# Altium schematic symbol library OPA1644AIPWR.SchLib: 1 symbol
Pins are listed as number, name and electrical type; pins without a type are passive.

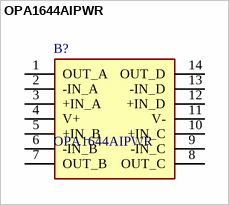
[diagram p0: symbol OPA1644AIPWR]

## OPA1644AIPWR
designator B?
Audio Amp Speaker 4-CH Stereo Class-AB 14-Pin TSSOP T/R; Manufacturer_Name: Texas Instruments; Geometry.Height: 1.2mm; Manufacturer_Part_Number: OPA1644AIPWR; Mouser Part Number: 595-OPA1644AIPWR; Mouser Price/Stock: https://www.mouser.co.uk/ProductDetail/Texas-Instruments/OPA1644AIPWR?qs=%2Fqzd9s%252BcLd4iHZGLZZVdLg%3D%3D; Arrow Part Number: OPA1644AIPWR; Arrow Price/Stock: https://www.arrow.com/en/products/opa1644aipwr/texas-instruments?region=nac; Datasheet Link: https://www.ti.com/lit/gpn/opa1644
footprint SOP65P640X120-14N
pins: 1 OUT_A, 2 -IN_A, 3 +IN_A, 4 V+, 5 +IN_B, 6 -IN_B, 7 OUT_B, 8 OUT_C, 9 -IN_C, 10 +IN_C, 11 V-, 12 +IN_D, 13 -IN_D, 14 OUT_D